# Altium integrated library ECE_ComponentsAD23_2.IntLib: 366 symbols (part 1 of 4)
Pins are listed as number, name and electrical type; pins without a type are passive.

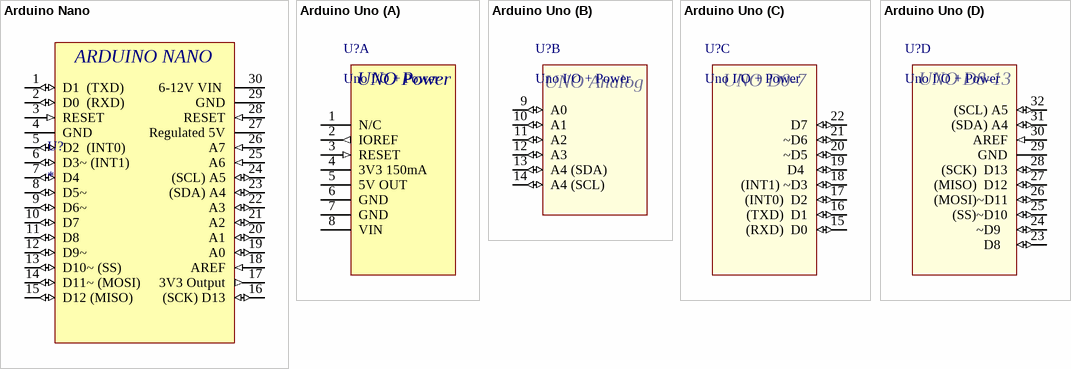
[diagram p0: symbols Arduino Nano to Arduino Uno]

## Arduino Nano
designator U?
Arduino Nano
footprint Arduino-nano
pins: 1 D1  (TXD) (io) "Arduino Pin1 - PD1 - TX data", 2 D0  (RXD) (io) "Arduino Pin0 - PD0 - RXD", 3 RESET (in) "PC6 - RESET", 4 GND (power), 5 D2  (INT0) (io) "Arduino Pin2 - PD2 - INT0", 6 D3~ (INT1) (io) "Arduino Pin3 - PD3 - INT1 - PWM", 7 D4  (io) "Arduino Pin4 - PD4", 8 D5~ (io) "Arduino Pin5 - PD5 - PWM", 9 D6~ (io) "Arduino Pin6 - PD6 - PWM", 10 D7 (io) "Arduino Pin7 - PD7", 11 D8 (io) "Arduino Pin8 - PB0", 12 D9~ (io) "Arduino Pin9 - PB1 - PWM", 13 D10~ (SS) (io) "Arduino Pin10 - PB2 - PWM - SPI SLAVE SELECT", 14 D11~ (MOSI) (io) "Arduino Pin11 - PB3 - PWM - SPI MOSI", 15 D12 (MISO) (io) "Arduino Pin12 - PB4 - SPI MISO", 16 (SCK) D13 (io) "Arduino Pin13 - PB5 - SPI SCK", 17 3V3 Output (out) "3V3 - Output from Arduino", 18 AREF (in) "Analog Ref", 19 A0 (io) "ADC0 - PC0", 20 A1 (io) "ADC1 - PC1", 21 A2 (io) "ADC2 - PC2", 22 A3 (io) "ADC3 - PC3", 23 (SDA) A4 (io) "ADC4 - PC4 - SDA", 24 (SCL) A5 (io) "ADC5 - PC5 - SCL", 25 A6 (in) "ADC6 - input only", 26 A7 (in) "ADC7 - input only", 27 Regulated 5V (power) "5V Reg out from onboard reg. OR 5V Reg IN", 28 RESET (in) "RESET - PC6", 29 GND (power), 30 6-12V VIN  (power) "External supply to onboard 5V regulator"
text: ARDUINO NANO

## Arduino Uno
designator U?, comment Uno I/O + Power
Four ports - Dig 0-8, Dig 8-13, Analog 0-5, Power
footprint Arduino Uno
part A pins: 1 N/C "Not Connected", 2 IOREF (out) "Reference for shield from Uno indicating I/O volt level", 3 RESET (in), 4 3V3 150mA (power) "3V3 150mA - uses LP2985-33DBVR", 5 5V OUT (power) "5V 500mA USB / 1A via DC Jack or VIN", 6 GND (power), 7 GND (power), 8 VIN (power) "VIN 7-20V"
part B pins: 9 A0 (io) "A0 or Gen I/O", 10 A1 (io) "A1 or Gen I/O", 11 A2 (io) "A2 or Gen I/O", 12 A3 (io) "A3 or Gen I/O", 13 A4 (SDA) (io) "A4 - Gen I/O - SDA", 14 A4 (SCL) (io) "A4 - Gen I/O - SCL"
part C pins: 15 (RXD)  D0 (io) "Arduino Pin0 - PD0 - RXD", 16 (TXD)  D1 (io) "D1 - PD1 - TXD", 17 (INT0)  D2 (io) "Arduino Pin2 - PD2 - INT0", 18 (INT1) ~D3 (io) "Arduino Pin3 - PD3 - INT1 - PWM", 19 D4  (io) "Arduino Pin4 - PD4", 20 ~D5 (io) "Arduino Pin5 - PD5 - PWM", 21 ~D6 (io) "Arduino Pin6 - PD6 - PWM", 22 D7 (io) "Arduino Pin7 - PD7"
part D pins: 23 D8   (io) "Arduino Pin8 - PB0", 24 ~D9   (io) "Arduino Pin9 - PB1 - PWM", 25 (SS)~D10 (io) "Arduino Pin10 - PB2 - PWM - SPI SLAVE SELECT", 26 (MOSI)~D11 (io) "Arduino Pin11 - PB3 - PWM - SPI MOSI", 27 (MISO)  D12 (io) "Arduino Pin12 - PB4 - SPI MISO", 28 (SCK)  D13 (io) "Arduino Pin13 - PB5 - SPI SCK", 29 GND (power), 30 AREF (in) "Analog Ref", 31 (SDA) A4 (io) "ADC4 - PC4 - SDA", 32 (SCL) A5 (io) "ADC5 - PC5 -SCL"
part A text: UNO Power
part B text: UNO Analog
part C text: UNO D0-7
part D text: UNO D8-13


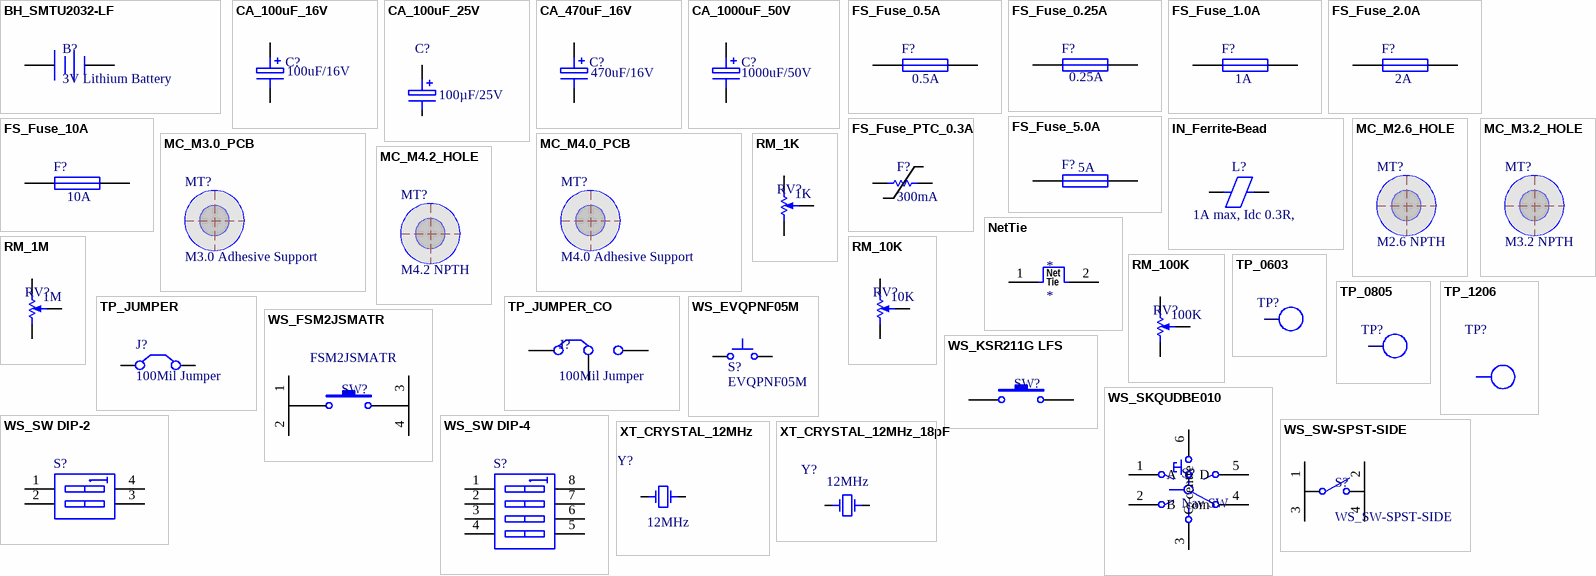
[diagram p1: symbols BH_SMTU2032-LF to XT_CRYSTAL_12MHz_18pF]

## BH_SMTU2032-LF
designator B?, comment 3V Lithium Battery
3V Lithium Coin Cell CR2032FH SMD; Storage Location: PCB Assembly WS; Supplier 2 PN: 3826351; Supplier 1: Farnell; Supplier Part Number 1: 1216354; Supplier: ECE Dept
footprint SMTU2032-LF (CR2032 Coin Cell Battery Holder SMT)
pins: 1 +, 2 -

## CA_100uF_16V
designator C?, comment 100uF/16V
CAP ALUM 100uF 16V SMD; Manufacturer PN: UWX1C101MCL1GB; Manufacturer: Nichcon; Supplier 1: Farnell; Supplier Part Number 1: 1870677; Storage Location: PCB Assembly WS; Supplier: ECE Dept; Supplier 2: Digi-Key; Supplier Part Number 2: 493-2105-1-ND; Value: 100uF/16V
footprint NICH-1 (Electrolytic capacitor)
pins: 1, 2

## CA_100uF_25V
designator C?, comment 100µF/25V
CAP ALUM 100UF 25V 20% SMD; Manufacturer: Nichicon; Manufacturer Part Number: UWT1E101MCL1GS; Ripple Current: 91mA; Supplier 1: Digi-Key; Height - Seated (Max): 0.303" (7.70mm); Mounting Type: Surface Mount; Operating Temperature: -55°C ~ 105°C; Package / Case: Radial, Can - SMD; Size / Dimension: 0.248" Dia (6.30mm); Supplier Part Number 1: 493-2190-1-ND; Capacitance: 100µF/25V
footprint CAPAE6666X77M (Aluminum Electrolytic Capacitor, Body 6.60x6.60x7.70mm, IPC Low Density)
pins: 1, 2

## CA_470uF_16V
designator C?, comment 470uF/16V
CAP ALUM 470uF 16V SMD; Manufacturer PN: EEEFP1C471AP; Manufacturer: Panasonic; Manufacturer Part Number: EEE-FP1C471AP; Material: Aluminium; Tolerance: 20%; Ripple Current: 850mA; ESR (Equivalent Series Resistance): 80mR; Life (Hours): 2000Hour; Leakage Current: 75.2uA; Storage Location: PCB Assembly WS; Supplier: ECE Dept; Mount: Surface Mount,PCB; Case/Package: Radial; Number of Pins: 2; Contact Plating: Tin; Min Operating Temperature: -55°C; Max Operating Temperature: 105°C; Capacitance: 470uF; Voltage Rating: 16V; Packaging: Tape and Reel; Package Quantity: 1; Voltage Rating (DC): 16V; Ripple Current (AC): 850mA; Termination: SMD/SMT; Voltage: 16V; Diameter: 8mm; Length: 10.5mm; Height: 10.2mm; Lead Pitch: 3.1mm; Height - Seated (Max): 0.402inch; Width: 8.3mm; Radiation Hardening: No; REACH SVHC: No SVHC; Lead Free: Lead Free; ComponentLink1URL: https://datasheet.ciiva.com/3773/45975129s8826661n1386-3773653.pdf; ComponentLink1Description: https://datasheet.ciiva.com/3773/45975129s8826661n1386-3773653.pdf; ComponentLink2URL: https://datasheet.ciiva.com/16393/aba0000ce114-16393093.pdf; ComponentLink2Description: https://datasheet.ciiva.com/16393/aba0000ce114-16393093.pdf; ComponentLink3URL: https://datasheet.ciiva.com/46385/370232-46385781.pdf; ComponentLink3Description: https://datasheet.ciiva.com/46385/370232-46385781.pdf; ComponentLink4URL: https://datasheet.ciiva.com/24072/aba0000ce114-40714-24072630.pdf; ComponentLink4Description: https://datasheet.ciiva.com/24072/aba0000ce114-40714-24072630.pdf; ComponentLink5URL: https://datasheet.ciiva.com/14607/70068195-14607368.pdf; ComponentLink5Description: https://datasheet.ciiva.com/14607/70068195-14607368.pdf; ComponentLink6URL: https://datasheet.ciiva.com/46376/370232-46376729.pdf; ComponentLink6Description: https://datasheet.ciiva.com/46376/370232-46376729.pdf; ComponentLink7URL: https://datasheet.ciiva.com/2985/aba0000ce114-2985530.pdf; ComponentLink7Description: https://datasheet.ciiva.com/2985/aba0000ce114-2985530.pdf; ComponentLink8URL: https://datasheet.ciiva.com/11777/0900766b80df09a1-11777354.pdf; ComponentLink8Description: https://datasheet.ciiva.com/11777/0900766b80df09a1-11777354.pdf; ComponentLink9URL: https://datasheet.ciiva.com/43455/370232-43455019.pdf; ComponentLink9Description: https://datasheet.ciiva.com/43455/370232-43455019.pdf; ComponentLink10URL: https://datasheet.ciiva.com/17353/aba0000ce114-17353676.pdf; ComponentLink10Description: https://datasheet.ciiva.com/17353/aba0000ce114-17353676.pdf; ComponentLink11URL: https://datasheet.ciiva.com/25614/0900766b80df09a1-25614237.pdf; ComponentLink11Description: https://datasheet.ciiva.com/25614/0900766b80df09a1-25614237.pdf; ComponentLink12URL: https://datasheet.ciiva.com/46387/370232-46387919.pdf; ComponentLink12Description: https://datasheet.ciiva.com/46387/370232-46387919.pdf; ComponentLink13URL: https://datasheet.ciiva.com/29313/444562-da-01-en-smd-elko-eeefp1c471ap-470uf-16v-105-29313908.pdf; ComponentLink13Description: https://datasheet.ciiva.com/29313/444562-da-01-en-smd-elko-eeefp1c471ap-470uf-16v-105-29313908.pdf; Supplier 1: Digi-Key; Supplier 2: Farnell; Supplier Part Number 1: PCE4436CT-ND; Supplier Part Number 2: 1539508; Value: 470uF/16V
footprint PANA-F (Panasonic FP Case Size F)
pins: 1, 2

## CA_1000uF_50V
designator C?, comment 1000uF/50V
CAP ALUM 1000uF 50V SMD; Manufacturer PN: EEVFK1H102M; Manufacturer: Panasonic; Supplier 1: Farnell; Supplier Part Number 1: 9695982; Storage Location: PCB Assembly WS; Supplier: ECE Dept; Supplier 2: Digi-Key; Supplier Part Number 2: PCE4848CT-ND; Value: 1000uF/50V
footprint PANA-J16 (Panasonic FJ Series Size J16)
pins: 1, 2

## FS_Fuse_0.5A
designator F?, comment 0.5A
Fuse 0.5A Very Fast Acting 1206 SMD; Manufacturer: MULTICOMP; Manufacturer PN: MC12CF.500; Breaking Capacity: 50A @ 32V AC / 63; Device Marking: F; Fuse Case Style: 1206; Fuse Current: 500; Supplier: ECE Dept; Storage Location: PCB Assembly WS; Blow Characteristic: Very Fast Acting; Fuse Type Blowing Characteristic: Very Fast Acting; Supplier 1: Farnell; Supplier Part Number 1: 1841022; Manufacturer Part Number: MC12CF.500; Value: 0.5A
footprint RESC3216L (Chip Resistor, Body 3.1x1.6mm, IPC High Density)
footprint RESC3216M (Chip Resistor, Body 3.2x1.6mm, IPC Low Density)
footprint RESC3216N (Chip Resistor, Body 3.2x1.6mm, IPC Medium Density)
pins: 1, 2

## FS_Fuse_0.25A
designator F?, comment 0.25A
Fuse 0.25A Very Fast Acting 1206 SMD; Manufacturer: MULTICOMP; Manufacturer PN: MC12CF.250; Breaking Capacity: 50A @ 32V AC / 63; Device Marking: D; Fuse Case Style: 1206; Fuse Current: 250; Supplier: ECE Dept; Storage Location: PCB Assembly WS; Blow Characteristic: Very Fast Acting; Fuse Type Blowing Characteristic: Very Fast Acting; Supplier 1: Farnell; Supplier Part Number 1: 1841020; Manufacturer Part Number: MC12CF.250; Value: 0.25A
footprint RESC3216L (Chip Resistor, Body 3.1x1.6mm, IPC High Density)
footprint RESC3216M (Chip Resistor, Body 3.2x1.6mm, IPC Low Density)
footprint RESC3216N (Chip Resistor, Body 3.2x1.6mm, IPC Medium Density)
pins: 1, 2

## FS_Fuse_1.0A
designator F?, comment 1A
Fuse 1.0A Very Fast Acting 1206 SMD; Manufacturer: MULTICOMP; Manufacturer PN: MC12CF 001; Breaking Capacity: 50A @ 32V AC / 63; Device Marking: H; Fuse Case Style: 1206; Fuse Current: 1; Supplier: ECE Dept; Storage Location: PCB Assembly WS; Blow Characteristic: Very Fast Acting; Fuse Type Blowing Characteristic: Very Fast Acting; Supplier 1: Farnell; Supplier Part Number 1: 1841024; Manufacturer Part Number: MC12CF 001; Value: 1A
footprint RESC3216L (Chip Resistor, Body 3.1x1.6mm, IPC High Density)
footprint RESC3216M (Chip Resistor, Body 3.2x1.6mm, IPC Low Density)
footprint RESC3216N (Chip Resistor, Body 3.2x1.6mm, IPC Medium Density)
pins: 1, 2

## FS_Fuse_2.0A
designator F?, comment 2A
Fuse 2.0A Very Fast Acting 1206 SMD; Manufacturer: MULTICOMP; Manufacturer PN: MC12CF 002; Supplier: ECE Dept; Storage Location: PCB Assembly WS; Supplier 1: Farnell; Supplier Part Number 1: 1841029; Manufacturer Part Number: MC12CF 002; Value: 2A
footprint RESC3216L (Chip Resistor, Body 3.1x1.6mm, IPC High Density)
footprint RESC3216M (Chip Resistor, Body 3.2x1.6mm, IPC Low Density)
footprint RESC3216N (Chip Resistor, Body 3.2x1.6mm, IPC Medium Density)
pins: 1, 2

## FS_Fuse_5.0A
designator F?, comment 5A
Fuse 5.0A Fast Acting 1206 SMD; Manufacturer Part Number: C1F5; Manufacturer: Bel TRP; Voltage Rating (AC): 125V; Voltage Rating (DC): 63V; DC Cold Resistance: 19mR; Fuse Type: Board Mount (Cartridge Style Excluded); Approvals: CE,cURus; Mount: Surface Mount; Case/Package: 1206; Number of Pins: 2; Case Code (Metric): 3216; Case Code (Imperial): 1206; Contact Plating: Nickel,Tin; Min Operating Temperature: -55°C; Max Operating Temperature: 125°C; Packaging: Tape and Reel; Voltage Rating: 125V; Length: 0.126inch; Width: 0.062inch; Supplier 1: Digi-Key; Stock 1: 725; Pricing 1: 1=0.32, 5=0.312, 10=0.298, 50=0.2662, 100=0.2479, 250=0.22032, 500=0.1836, 1000=0.17442 (USD); ComponentLink1URL: http://www.farnell.com/datasheets/2571625.pdf; ComponentLink1Description: http://www.farnell.com/datasheets/2571625.pdf; ComponentLink2URL: http://belfuse.com/pdfs/C1F.pdf; ComponentLink2Description: http://belfuse.com/pdfs/C1F.pdf; ComponentLink3URL: http://www.mouser.com/ds/2/643/C1F-594910.pdf; ComponentLink3Description: http://www.mouser.com/ds/2/643/C1F-594910.pdf; ComponentLink4URL: https://belfuse.com/resources/StewartConnector/C1F.pdf; ComponentLink4Description: https://belfuse.com/resources/StewartConnector/C1F.pdf; Current Rating: 5A; Supplier Part Number 1: 507-1886-1-ND; Supplier 2: Element14; Supplier Part Number 2: 2848595; Value: 5A
footprint RESC3216L (Chip Resistor, Body 3.1x1.6mm, IPC High Density)
footprint RESC3216M (Chip Resistor, Body 3.2x1.6mm, IPC Low Density)
footprint RESC3216N (Chip Resistor, Body 3.2x1.6mm, IPC Medium Density)
pins: 1, 2

## FS_Fuse_10A
designator F?, comment 10A
Fuse 10A Fast Acting 1206 SMD; Manufacturer: Eaton Bussmann; Manufacturer Part Number: TR/3216FF10-R; Device Marking: 10; Fuse Case Style: 1206; Voltage Rating (AC): 32V; Voltage Rating (DC): 24V; Supplier: ECE Dept; Storage Location: PCB Assembly WS; Fuse Current: 10; Fuse Type Blowing Characteristic: Fast Acting; Supplier 1: Digi-Key; Supplier 2: Farnell; Current Rating: 10A; Supplier Part Number 2: 1717117; Supplier Part Number 1: TR/3216FF10-R-ND; Blow Characteristic: Fast Acting; Value: 10A
footprint RESC3216L (Chip Resistor, Body 3.1x1.6mm, IPC High Density)
footprint RESC3216M (Chip Resistor, Body 3.2x1.6mm, IPC Low Density)
footprint RESC3216N (Chip Resistor, Body 3.2x1.6mm, IPC Medium Density)
pins: 1, 2

## FS_Fuse_PTC_0.3A
designator F?, comment 300mA
FUSE PTC RESETTABLE 0603 SMD 0.1A; Manufacturer: Bourns Inc.; Manufacturer Part Number: MF-FSMF010X-2; Current - Hold (Ih) (Max): 100mA; Current - Max: 40A; R Min/Max: 0.900 ~ 6.000 Ohm; Supplier 1: Digi-Key; Current - Trip (It): 300mA; Package / Case: 0603 (1608 Metric), Concave; Supplier Part Number 1: MF-FSMF010X-2CT-ND
footprint RESC1608N (Chip Resistor, Body 1.6x0.8mm, IPC Medium Density)
pins: 1, 2 -

## IN_Ferrite-Bead
designator L?, comment 1A max, Idc 0.3R,
Ferrite Bead, Rdc 0.3R, Z100MHZ 600R, Imax 1A, SMD 1206; Manufacturer: FAIR-RITE; Manufacturer PN: 2512066017Y1; DC Current Rating: 1; DC Resistance Max: 0.08; Ferrite Case Style: 1206 ^3216 Metric]; Frequency Range: 50MHz to 1; Impedance: 600; Impedance Tolerance: ± 25%; Supplier: ECE Dept; Storage Location: PCB Assembly WS; Ferrite Mounting: SMD; Supplier 1: Farnell; Supplier Part Number 1: 1612060; Manufacturer Part Number: 2512066017Y1; Value: 1A max, Idc 0.3R,
signal-integrity model Inductor Isolated
footprint INDC3216L (Chip Inductor, Body 3.2x1.6mm, IPC High Density)
footprint INDC3216M (Chip Inductor, Body 3.2x1.6mm, IPC Low Density)
footprint INDC3216N (Chip Inductor, Body 3.2x1.6mm, IPC Medium Density)
pins: 1, 2

## MC_M2.6_HOLE
designator MT?, comment M2.6 NPTH  (no BOM)
Fixing M2.6 Mount Hole NPTH; Manufacturer: Hi-Q; Manufacturer PN: 2BV series M2.5 Clearance; price: 0; Supplier: ECE Dept; value: M2.6 NPTH
footprint MNT-HOLE_2.6mm_NPTH (Mounting Hole 2.6mm non plated)

## MC_M3.0_PCB
designator MT?, comment M3.0 Adhesive Support  (no BOM)
PCB Support Adhesive Mount M3.0 Hi-Q PSA; Manufacturer PN: PSA Series; price: 0; Manufacturer: Hi-Q; Storage Location: ECE$ Store; Supplier: ECE Dept; value: M3.0 Adhesive Support
footprint HIQPSA3mm (PCB Support Adhesive Mount)

## MC_M3.2_HOLE
designator MT?, comment M3.2 NPTH  (no BOM)
Fixing M3.2 Mount Hole NPTH; Manufacturer: Hi-Q; Manufacturer PN: 3BV series M3 Clearance; price: 0; Supplier: ECE Dept; value: M3.2 NPTH
footprint MNT-HOLE_3.2mm_NPTH (Mounting Hole 3.2mm non plated)

## MC_M4.0_PCB
designator MT?, comment M4.0 Adhesive Support  (no BOM)
PCB Support Adhesive Mount M4.0 Hi-Q PSA; Manufacturer PN: PSA Series; price: 0; Manufacturer: Hi-Q; Storage Location: ECE$ Store; Supplier: ECE Dept; value: M4.0 Adhesive Support
footprint HIQPSA4mm (PCB Support Adhesive Mount)

## MC_M4.2_HOLE
designator MT?, comment M4.2 NPTH  (no BOM)
Fixing M4.2 Mount Hole NPTH; Manufacturer: Hi-Q; Manufacturer PN: 4NE Series M4 Clearance; price: 0; Supplier: ECE Dept; value: M4.2 NPTH
footprint MNT-HOLE_4.2mm_NPTH (Mounting Hole 4.2mm non plated)

## NetTie
designator *  (net tie, no BOM)
Allows the shorting of two nets.
footprint LINK 1206 (Chip Resistor, Body 3.1x1.6mm, IPC High Density)
pins: 1, 2 "1"
text: Net; Tie

## RM_1K
designator RV?, comment 1K
Trim Pot SMD 1K Murata PVZ2 Series SMD; Manufacturer Part Number: PVZ2A102C04B00; External Depth: 2.7; External Length / Height: 0.85; External Width: 2.1; No. of Turns: 1; Power Rating: 50; Resistor Element Material: Metal Foil; Manufacturer: MURATA; Storage Location: PCB Assembly WS; Potentiometer Mounting: SMD; Supplier 1: Farnell; Supplier Part Number 1: 1771721; Supplier: ECE Dept; Value: 1K
footprint PVZ2A (MuRata Trimmer Pots)
pins: 1, 2 W, 3 -

## RM_1M
designator RV?, comment 1M
Trim Pot SMD 1M Murata PVZ2 Series SMD; Manufacturer Part Number: PVZ2A105C04B00; Adjustment Type: Top; External Depth: 2.7; External Length / Height: 0.85; External Width: 2.1; No. of Turns: 1; Power Rating: 50; Resistor Element Material: Metal Foil; Manufacturer: MURATA; Storage Location: PCB Assembly WS; Potentiometer Mounting: SMD; Series: PVZ2; Supplier 1: Farnell; Supplier Part Number 1: 1771729; Supplier: ECE Dept; Value: 1M
footprint PVZ2A (MuRata Trimmer Pots)
pins: 1, 2 W, 3 -

## RM_10K
designator RV?, comment 10K
Trim Pot SMD 10K Murata PVZ2 Series SMD; Manufacturer PN: PVZ2A103C04B00; Supplier 1: Farnell; Supplier Part Number 1: 1771725; Manufacturer: Murata; Storage Location: PCB Assembly WS; Supplier: ECE Dept; Value: 10K
footprint PVZ2A (MuRata Trimmer Pots)
pins: 1, 2 W, 3 -

## RM_100K
designator RV?, comment 100K
Trim Pot SMD 100K Murata PVZ2 Series SMD; Manufacturer Part Number: PVZ2A104C04B00; Adjustment Type: Top; External Depth: 2.7; External Length / Height: 0.85; External Width: 2.1; No. of Turns: 1; Power Rating: 50; Resistor Element Material: Metal Foil; Manufacturer: MURATA; Storage Location: PCB Assembly WS; Potentiometer Mounting: SMD; Series: PVZ2; Supplier 1: Farnell; Supplier Part Number 1: 1771728; Supplier: ECE Dept; Value: 100K
footprint PVZ2A (MuRata Trimmer Pots)
pins: 1, 2 W, 3 -

## TP_0603
designator TP?  (value not drawn)
Test Point 1.65X0.9X1.2mm SMD; Manufacturer: TE Connectivity AMP Connectors; Manufacturer Part Number: 1625854-3; Supplier 1: Digi-Key; Mounting Type: Surface Mount; Terminal: 0.063" x 0.031" x 0.045" (1.60mm x 0.80mm x 1.15mm); Type: PC Test Point; Supplier Part Number 1: A106145CT-ND
footprint TP_0603 (TestPoint 0603)
pins: 1 TP

## TP_0805
designator TP?  (value not drawn)
Test Point 2.0X0.9X1.2mm SMD; Manufacturer: TE Connectivity AMP Connectors; Manufacturer Part Number: 1625854-2; Supplier 1: Digi-Key; Mounting Type: Surface Mount; Terminal: 0.079" x 0.049" x 0.057" (2.00mm x 1.25mm x 1.45mm); Type: PC Test Point; Supplier Part Number 1: A106144CT-ND
footprint TP_0805 (TestPoint SMD)
pins: 1 TP

## TP_1206
designator TP?, comment TP  (value not drawn)  (no BOM)
Test-Point 3.3x1.6x2.1mm SMD; Manufacturer: Harwin Inc; Manufacturer Part Number: S1751-46R; Manufacturer PN: *; Storage Location: ProtoPlace; Mounting Type: Surface Mount; Type: PC Test Point; Supplier 1: Digi-Key; Supplier Part Number 1: 952-1478-2-ND; Supplier 2: Farnell; Supplier Part Number 2: 1826282; Supplier: ECE Dept; Value: TP
footprint TP_1206 (Test Point Pad)
pins: 1

## TP_JUMPER
designator J?, comment 100Mil Jumper
2.54mm Jumper Thru Hole; Pitch Spacing: 2.54; No. of Rows: 1; No. of Positions: 2; Supplier: ECE Dept; Supplier 1: Farnell; Supplier Part Number 1: 1097975; Storage Location: ECE$ Store
footprint JMP2.54 (Jumper Change over 2.54mm)
pins: 1 C1, 2 C2

## TP_JUMPER_CO
designator J?, comment 100Mil Jumper
2.54mm Jumper change over, Thru Hole; Supplier: ECE Dept; Storage Location: ECE$ Store
footprint JMP2.54-CO (Jumper Change over 2.54mm)
pins: 1 C1, 2 C2, 3 C3

## WS_EVQPNF05M
designator S?, comment EVQPNF05M
Panasonic 6 x 3.5mm SMD Light Touch Switch Type SMD; PackageDescription: 6.0 x 3.5 mm; Supplier 1: Farnell; Supplier Part Number 1: 2079481; Manufacturer: Panasonic; Manufacturer PN: EVQPNF05M; Supplier 2: Digi-Key; Supplier Part Number 2: P13598SCT-ND; Storage Location: PCB Assembly WS; Supplier: ECE Dept
footprint EVQPNF05M (Panansonic light touch SMD push button switch)
pins: 1, 2

## WS_FSM2JSMATR
designator SW?, comment FSM2JSMATR
SWITCH TACTILE SPST-NO 0.05A 12V SMD; Manufacturer: TE Connectivity; Actuator Height off PCB, from Pins: 4.30mm; Actuator Orientation: Top Actuated; Contact Rating @ Voltage: 0.05A @ 12VDC; Operating Force: 160gf; Outline: 6.00mm x 6.00mm; Supplier 1: Farnell; Supplier 2: Digi-Key; Circuit: SPST-NO; Pricing: 1=0.55, 10=0.518, 25=0.4444, 50=0.3778, 100=0.363, 250=0.32592, 500=0.31108 (NZD); Supplier Part Number 1: 1570392; Supplier Part Number 2: 450-1757-1-ND; Storage Location: PCB Assembly WS; Supplier: ECE Dept; Manufacturer Part Number: FSM2JSMATR
footprint FSM2JSMA (6 X 6 mm Switch)
pins: 1, 2, 3, 4

## WS_KSR211G LFS
designator SW?, comment KSR211G LFS  (value not drawn)
SWITCH TACTILE SPST-NO SMD; Manufacturer: C & K COMPONENTS; Contact Current Max: 50; Contact Resistance: 100; Contact Voltage DC Nom: 32; Operating Force: 1.8; Contact Configuration: SPST-NO; Pricing: 1=0.538, 50=0.477, 100=0.416, 2500=0.219 (NZD); Supplier 1: Farnell; Supplier Part Number 1: 1437634; Storage Location: PCB Assembly WS; Supplier: ECE Dept; Manufacturer Part Number: KSR211G LFS
footprint KSR211G (Subminature Tactile Switch in SMT)
pins: 1, 2

## WS_SKQUDBE010
designator S?, comment Nav SW
4-Direction with Center-push function Nav SW SMD; Manufacturer: ALPS; Manufacturers PN: SKQUDBE010; Contact Current DC Max: 50; Contact Voltage DC Max: 12; External Depth: 10; External Length / Height: 8.6; Switch Operation: 4 Direction and Centre Push; Supplier: RS; Supplier PN: 516-110; Supplier 1: Farnell; Supplier Part Number 1: 1435776; External Width: 10; Height: 5.8; ComponentLink1URL: http://www.farnell.com/datasheets/85573.pdf; ComponentLink1Description: http://www.farnell.com/datasheets/85573.pdf; Footprint: SKQU
footprint SKQU (6 pad SMD Nav SW)
pins: 1 A, 2 B, 3 C, 4 com, 5 D, 6 centre

## WS_SW DIP-2
designator S?
DIP Switch, 2 Position, SPST SMD; Manufacturer: OMRON ELECTRONIC COMPONENTS; Manufacturer Part Number: A6SN-2101; Contact Current DC Max: 25; External Length / Height: 7; No. of Switch Positions: 2; Pitch Spacing: 2.54; PackageReference: DIP-4; Contact Configuration: SPST; Supplier 1: Farnell; Supplier Part Number 1: 2029424; Storage Location: PCB Assembly WS; Supplier: ECE Dept
footprint DIP_SW_2WAY_SMD (DIP Switch; 4 Leads)
pins: 1 A1, 2 A2, 3 B2, 4 B1

## WS_SW DIP-4
designator S?
DIP Switch, 4 Position, SPST SMD; Manufacturer: OMRON ELECTRONIC COMPONENTS; Manufacturer Part Number: A6SN-4101; Contact Current DC Max: 25; External Length / Height: 12.1; No. of Switch Positions: 4; Pitch Spacing: 2.54; Contact Configuration: SPST; Supplier 1: Farnell; Supplier Part Number 1: 2029425; Storage Location: PCB Assembly WS; Supplier: ECE Dept
footprint DIP_SW_4WAY_SMD - (DIP Switch; 8 Leads)
pins: 1 A1, 2 A2, 3 A3, 4 A4, 5 B4, 6 B3, 7 B2, 8 B1

## WS_SW-SPST-SIDE
designator S?
Single-Pole, Side operated Single-Throw Switch SMD; Manufacturer: WURTH ELEKTRONIK; Manufacturer Part Number: 434353045816; Contact Configuration: DPST; Contact Current Max: 50; Contact Voltage DC Nom: 12; External Depth: 3.5; External Length / Height: 1.65; External Width: 4.7; Operating Force: 160; PackageReference: SPST-2; PackageDescription: Switch; 2 Leads; Pricing: 1=1.57, 25=1.25, 50=0.93, 100=0.58, 250=0.55 (NZD); Supplier 1: Farnell; Supplier Part Number 1: 1867998RL
footprint SW-TUS-4.7X3.5 (SPST Side Operated SMD Switch)
pins: 1 COMMON, 2 NO, 3 COMMON, 4 NO

## XT_CRYSTAL_12MHz
designator Y?, comment ****Legacy stock - 60 available Feb2022****  value 12MHz
12.00 MHZ 18PF HC49/4H SMD; Manufacturer: Abracon Corporation; Manufacturer PN: ABLS-8.000MHZ-B2-T; Supplier 1: Farnell; Supplier Part Number 1: 1842280; Storage Location: PCB Assembly WS; Supplier: ECE Dept; Supplier 2: Digi-Key; Supplier Part Number 2: 535-10218-1-ND
footprint HC49/4h_SMX (Quartz Crystal, SM; Body 13.4 (inc. leads) x 4.9 mm (LxW max))
pins: 1 OSC1, 2 OSC2

## XT_CRYSTAL_12MHz_18pF
designator Y?, comment 12MHz
CRYSTAL 12MHZ 18PF 6X3.5mm SMD; Manufacturer: CTS-Frequency Controls; Manufacturer Part Number: 406C35D12M00000; ESR (Equivalent Series Resistance): 60 Ohm; Frequency Stability: ±50ppm; Frequency Tolerance: ±30ppm; Operating Mode: Fundamental; Supplier 1: Digi-Key; Height: 0.047" (1.20mm); Load Capacitance: 18pF; Mounting Type: Surface Mount; Operating Temperature: -20°C ~ 70°C; Package / Case: 4-SMD, No Lead (DFN, LCC); Size / Dimension: 0.236" L x 0.138" W (6.00mm x 3.50mm); Supplier Part Number 1: CTX855CT-ND; Frequency: 12MHz
footprint 6.0X3.5-4 (4 SMD 6.0X3.5 mm No Lead Crystal)
pins: 1 OSC1, 3 OSC2


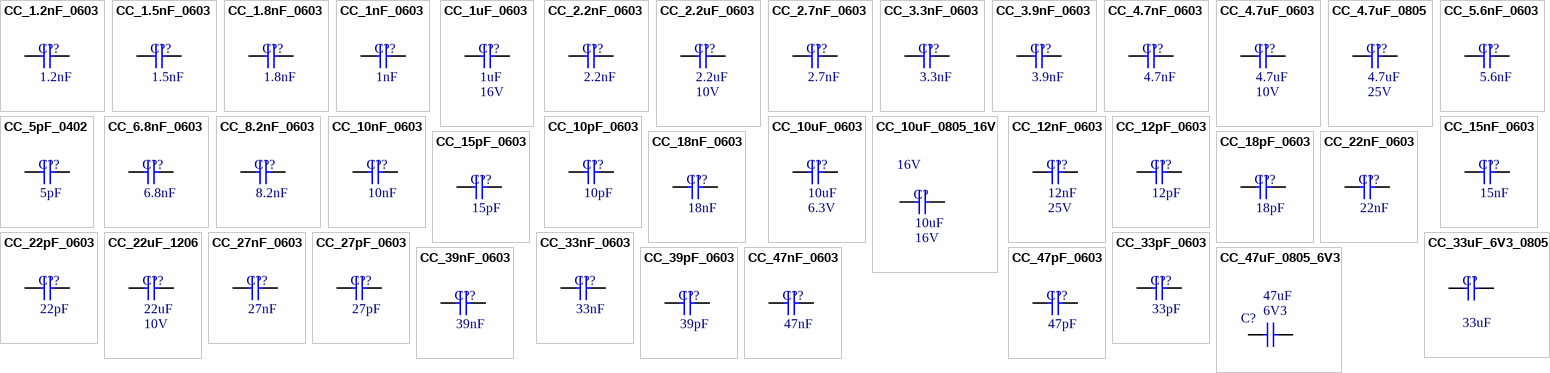
[diagram p2: symbols CC_1.2nF_0603 to CC_47uF_0805_6V3]

## CC_1.2nF_0603
designator C??, comment 1.2nF
CAP CER 1.2nF X7R +-10% 50V 0603; PackageReference: 0603; Code_IPC: 1608 [0603]; Verify: *; Supplier: ECE Dept; Storage Location: PCB Assembly WS; Value: 1.2nF
simulation model CAP (Capacitor)
signal-integrity model C0603
footprint CAPC1608L (Chip Capacitor, Body 1.6x0.8mm, IPC High Density)
footprint CAPC1608M (Chip Capacitor, Body 1.6x0.8mm, IPC Low Density)
footprint CAPC1608N (Chip Capacitor, Body 1.6x0.8mm, IPC Medium Density)
pins: 1, 2

## CC_1.5nF_0603
designator C??, comment 1.5nF
CAP CER 1.5nF X7R +-10% 50V 0603; PackageReference: 0603; Code_IPC: 1608 [0603]; Verify: *; Supplier: ECE Dept; Storage Location: PCB Assembly WS; Value: 1.5nF
simulation model CAP (Capacitor)
signal-integrity model C0603
footprint CAPC1608L (Chip Capacitor, Body 1.6x0.8mm, IPC High Density)
footprint CAPC1608M (Chip Capacitor, Body 1.6x0.8mm, IPC Low Density)
footprint CAPC1608N (Chip Capacitor, Body 1.6x0.8mm, IPC Medium Density)
pins: 1, 2

## CC_1.8nF_0603
designator C??, comment 1.8nF
CAP CER 1.8nF X7R +-10% 50V 0603; PackageReference: 0603; Code_IPC: 1608 [0603]; Verify: *; Supplier: ECE Dept; Storage Location: PCB Assembly WS; Value: 1.8nF
simulation model CAP (Capacitor)
signal-integrity model C0603
footprint CAPC1608L (Chip Capacitor, Body 1.6x0.8mm, IPC High Density)
footprint CAPC1608M (Chip Capacitor, Body 1.6x0.8mm, IPC Low Density)
footprint CAPC1608N (Chip Capacitor, Body 1.6x0.8mm, IPC Medium Density)
pins: 1, 2

## CC_1nF_0603
designator C??, comment 1nF
CAP CER 1nF X7R +-10% 50V 0603; PackageReference: 0603; Code_IPC: 1608 [0603]; Verify: *; Supplier: ECE Dept; Storage Location: PCB Assembly WS; Value: 1nF
simulation model CAP (Capacitor)
signal-integrity model C0603
footprint CAPC1608L (Chip Capacitor, Body 1.6x0.8mm, IPC High Density)
footprint CAPC1608M (Chip Capacitor, Body 1.6x0.8mm, IPC Low Density)
footprint CAPC1608N (Chip Capacitor, Body 1.6x0.8mm, IPC Medium Density)
pins: 1, 2

## CC_1uF_0603
designator C??, comment Max Voltage: 16V  (hidden comment: 1uF)
CAP CER 1uF Y5V -20% +80% 16V 0603; PackageReference: 0603; Code_IPC: 1608 [0603]; Verify: *; Supplier: ECE Dept; Storage Location: PCB Assembly WS; Value: 1uF
simulation model CAP (Capacitor)
signal-integrity model C0603
footprint CAPC1608L (Chip Capacitor, Body 1.6x0.8mm, IPC High Density)
footprint CAPC1608M (Chip Capacitor, Body 1.6x0.8mm, IPC Low Density)
footprint CAPC1608N (Chip Capacitor, Body 1.6x0.8mm, IPC Medium Density)
pins: 1, 2

## CC_2.2nF_0603
designator C??, comment 2.2nF
CAP CER 2.2nF X7R +-10% 50V 0603; PackageReference: 0603; Code_IPC: 1608 [0603]; Verify: *; Supplier: ECE Dept; Storage Location: PCB Assembly WS; Value: 2.2nF
simulation model CAP (Capacitor)
signal-integrity model C0603
footprint CAPC1608L (Chip Capacitor, Body 1.6x0.8mm, IPC High Density)
footprint CAPC1608M (Chip Capacitor, Body 1.6x0.8mm, IPC Low Density)
footprint CAPC1608N (Chip Capacitor, Body 1.6x0.8mm, IPC Medium Density)
pins: 1, 2

## CC_2.2uF_0603
designator C??, comment Max Voltage: 10V  (hidden comment: 2.2uF)
CAP CER 2.2uF X5R +-20% 10V 0603; PackageReference: 0603; Code_IPC: 1608 [0603]; Verify: *; Supplier: ECE Dept; Storage Location: PCB Assembly WS; Value: 2.2uF
simulation model CAP (Capacitor)
signal-integrity model C0603
footprint CAPC1608L (Chip Capacitor, Body 1.6x0.8mm, IPC High Density)
footprint CAPC1608M (Chip Capacitor, Body 1.6x0.8mm, IPC Low Density)
footprint CAPC1608N (Chip Capacitor, Body 1.6x0.8mm, IPC Medium Density)
pins: 1, 2

## CC_2.7nF_0603
designator C??, comment 2.7nF
CAP CER 2.7nF X7R +-10% 50V 0603; PackageReference: 0603; Code_IPC: 1608 [0603]; Verify: *; Supplier: ECE Dept; Storage Location: PCB Assembly WS; Value: 2.7nF
simulation model CAP (Capacitor)
signal-integrity model C0603
footprint CAPC1608L (Chip Capacitor, Body 1.6x0.8mm, IPC High Density)
footprint CAPC1608M (Chip Capacitor, Body 1.6x0.8mm, IPC Low Density)
footprint CAPC1608N (Chip Capacitor, Body 1.6x0.8mm, IPC Medium Density)
pins: 1, 2

## CC_3.3nF_0603
designator C??, comment 3.3nF
CAP CER 3.3nF X7R +-10% 50V 0603; PackageReference: 0603; Code_IPC: 1608 [0603]; Verify: *; Supplier: ECE Dept; Storage Location: PCB Assembly WS; Value: 3.3nF
simulation model CAP (Capacitor)
signal-integrity model C0603
footprint CAPC1608L (Chip Capacitor, Body 1.6x0.8mm, IPC High Density)
footprint CAPC1608M (Chip Capacitor, Body 1.6x0.8mm, IPC Low Density)
footprint CAPC1608N (Chip Capacitor, Body 1.6x0.8mm, IPC Medium Density)
pins: 1, 2

## CC_3.9nF_0603
designator C??, comment 3.9nF
CAP CER 3.9nF X7R +-10% 50V 0603; PackageReference: 0603; Code_IPC: 1608 [0603]; Verify: *; Supplier: ECE Dept; Storage Location: PCB Assembly WS; Value: 3.9nF
simulation model CAP (Capacitor)
signal-integrity model C0603
footprint CAPC1608L (Chip Capacitor, Body 1.6x0.8mm, IPC High Density)
footprint CAPC1608M (Chip Capacitor, Body 1.6x0.8mm, IPC Low Density)
footprint CAPC1608N (Chip Capacitor, Body 1.6x0.8mm, IPC Medium Density)
pins: 1, 2

## CC_4.7nF_0603
designator C??, comment 4.7nF
CAP CER 4.7nF X7R +-10% 50V 0603; PackageReference: 0603; Code_IPC: 1608 [0603]; Verify: *; Supplier: ECE Dept; Storage Location: PCB Assembly WS; Value: 4.7nF
simulation model CAP (Capacitor)
signal-integrity model C0603
footprint CAPC1608L (Chip Capacitor, Body 1.6x0.8mm, IPC High Density)
footprint CAPC1608M (Chip Capacitor, Body 1.6x0.8mm, IPC Low Density)
footprint CAPC1608N (Chip Capacitor, Body 1.6x0.8mm, IPC Medium Density)
pins: 1, 2

## CC_4.7uF_0603
designator C??, comment Max Voltage: 10V  (hidden comment: 4.7uF)
CAP CER 4.7uF X5R +-20%  10V 0603; Note: Footprint corresponds to dimensions for bulk cassette packaging. This case size has tightened tolerances.; PackageReference: 0805; Code_IPC: 2012[0805]; Verify: *; Supplier: ECE Dept; Storage Location: PCB Assembly WS; Value: 4.7uF
simulation model CAP (Capacitor)
footprint CAPC1608L (Chip Capacitor, Body 1.6x0.8mm, IPC High Density)
footprint CAPC1608M (Chip Capacitor, Body 1.6x0.8mm, IPC Low Density)
footprint CAPC1608N (Chip Capacitor, Body 1.6x0.8mm, IPC Medium Density)
pins: 1, 2

## CC_4.7uF_0805
designator C??, comment Max Voltage: 25V  (hidden comment: 4.7uF)
CAP CER 4.7uF Y5V -20% +80% 25V 0805; Note: Footprint corresponds to dimensions for bulk cassette packaging. This case size has tightened tolerances.; PackageReference: 0805; Code_IPC: 2012[0805]; Verify: *; Supplier: ECE Dept; Storage Location: PCB Assembly WS; Value: 4.7uF
simulation model CAP (Capacitor)
signal-integrity model C0805
footprint CAPC2012L (Chip Capacitor, Body 2.0x1.3mm, IPC High Density)
footprint CAPC2012M (Chip Capacitor, Body 2.0x1.3mm, IPC Low Density)
footprint CAPC2012N (Chip Capacitor, Body 2.0x1.3mm, IPC Medium Density)
pins: 1, 2

## CC_5.6nF_0603
designator C??, comment 5.6nF
CAP CER 5.6nF X7R +-10% 50V 0603; PackageReference: 0603; Code_IPC: 1608 [0603]; Verify: *; Supplier: ECE Dept; Storage Location: PCB Assembly WS; Value: 5.6nF
simulation model CAP (Capacitor)
signal-integrity model C0603
footprint CAPC1608L (Chip Capacitor, Body 1.6x0.8mm, IPC High Density)
footprint CAPC1608M (Chip Capacitor, Body 1.6x0.8mm, IPC Low Density)
footprint CAPC1608N (Chip Capacitor, Body 1.6x0.8mm, IPC Medium Density)
pins: 1, 2

## CC_5pF_0402
designator C??, comment 5pF
CAP CER 5pF COG/NPO 50V 0402; PackageReference: 0402; Code_IPC: 1005 [0402]; Verify: *; Supplier: ECE Dept; Storage Location: PCB Assembly WS; Value: 5pF
simulation model CAP (Capacitor)
signal-integrity model C0402
footprint CAPC1005L (Chip Capacitor, Body 1.0x0.5mm, IPC High Density)
footprint CAPC1005M (Chip Capacitor, Body 1.0x0.5mm, IPC Low Density)
footprint CAPC1005N (Chip Capacitor, Body 1.0x0.5mm, IPC Medium Density)
pins: 1, 2

## CC_6.8nF_0603
designator C??, comment 6.8nF
CAP CER 6.8nF X7R +-10% 50V 0603; PackageReference: 0603; Code_IPC: 1608 [0603]; Verify: *; Supplier: ECE Dept; Storage Location: PCB Assembly WS; Value: 6.8nF
simulation model CAP (Capacitor)
signal-integrity model C0603
footprint CAPC1608L (Chip Capacitor, Body 1.6x0.8mm, IPC High Density)
footprint CAPC1608M (Chip Capacitor, Body 1.6x0.8mm, IPC Low Density)
footprint CAPC1608N (Chip Capacitor, Body 1.6x0.8mm, IPC Medium Density)
pins: 1, 2

## CC_8.2nF_0603
designator C??, comment 8.2nF
CAP CER 8.2nF X7R +-10% 50V 0603; PackageReference: 0603; Code_IPC: 1608 [0603]; Verify: *; Supplier: ECE Dept; Storage Location: PCB Assembly WS; Value: 8.2nF
simulation model CAP (Capacitor)
signal-integrity model C0603
footprint CAPC1608L (Chip Capacitor, Body 1.6x0.8mm, IPC High Density)
footprint CAPC1608M (Chip Capacitor, Body 1.6x0.8mm, IPC Low Density)
footprint CAPC1608N (Chip Capacitor, Body 1.6x0.8mm, IPC Medium Density)
pins: 1, 2

## CC_10nF_0603
designator C??, comment 10nF
CAP CER 10nF X7R +-10% 50V 0603; PackageReference: 0603; Code_IPC: 1608 [0603]; Verify: *; Supplier: ECE Dept; Storage Location: PCB Assembly WS; Value: 10nF
simulation model CAP (Capacitor)
signal-integrity model C0603
footprint CAPC1608L (Chip Capacitor, Body 1.6x0.8mm, IPC High Density)
footprint CAPC1608M (Chip Capacitor, Body 1.6x0.8mm, IPC Low Density)
footprint CAPC1608N (Chip Capacitor, Body 1.6x0.8mm, IPC Medium Density)
pins: 1, 2

## CC_10pF_0603
designator C??, comment 10pF
CAP CER 10pF COG/NPO 50V 0603; PackageReference: 0603; Code_IPC: 1005 [0402]; Verify: *; Supplier: ECE Dept; Storage Location: PCB Assembly WS; Value: 10pF
simulation model CAP (Capacitor)
signal-integrity model C0402
footprint CAPC1608L (Chip Capacitor, Body 1.6x0.8mm, IPC High Density)
footprint CAPC1608M (Chip Capacitor, Body 1.6x0.8mm, IPC Low Density)
footprint CAPC1608N (Chip Capacitor, Body 1.6x0.8mm, IPC Medium Density)
pins: 1, 2

## CC_10uF_0603
designator C??, comment Voltage - Rated: 6.3V  (hidden comment: 10uF)
CAP CER 10UF X5R +-20% 6V3 0603; Supplier: ECE Dept; Storage Location: PCB Assembly WS; Value: 10uF
simulation model CAP (Capacitor)
signal-integrity model C0805
footprint CAPC1608L (Chip Capacitor, Body 1.6x0.8mm, IPC High Density)
footprint CAPC1608M (Chip Capacitor, Body 1.6x0.8mm, IPC Low Density)
footprint CAPC1608N (Chip Capacitor, Body 1.6x0.8mm, IPC Medium Density)
pins: 1, 2

## CC_10uF_0805_16V
designator C?, comment Voltage - Rated: 16V  (hidden comment: 10uF)
CAP CER 10uF X5R 16V 0805; Manufacturer: Samsung Electro-Mechanics; Manufacturer Part Number: CL21A106KOQNNWE; Note: Footprint corresponds to dimensions for bulk cassette packaging. This case size has tightened tolerances.; Tolerance: ±10%; Notification: Current market demand for these product types have resulted in fluctuating and extending lead times. Lead times may differ.; PackageReference: 0805; Code_IPC: 2012[0805]; Supplier 1: Digi-Key; RoHS: RoHS Compliant; Category: Capacitors; Stock 1: 20000; Pricing 1: 1=0.35, 10=0.25, 100=0.1178, 500=0.08254, 1000=0.06831 (NZD); Packaging: Cut Tape (CT); Part Status: Active; Temperature Coefficient: X5R; Operating Temperature: -55°C ~ 85°C; Features: -; Ratings: -; Applications: General Purpose; Mounting Type: Surface Mount, MLCC; Package / Case: 0805 (2012 Metric); Size / Dimension: 0.079" L x 0.049" W (2.00mm x 1.25mm); Height - Seated (Max): -; Thickness (Max): 0.055" (1.40mm); Lead Spacing: -; Lead Style: -; ComponentLink1URL: http://www.samsungsem.com/kr/support/product-search/mlcc/CL21A106KOQNNWE.jsp; ComponentLink1Description: http://www.samsungsem.com/kr/support/product-search/mlcc/CL21A106KOQNNWE.jsp; Supplier Part Number 1: 1276-2894-1-ND; Value: 10uF; Max Voltage: 16V
simulation model CAP (Capacitor)
signal-integrity model C0805
footprint CAPC2012L (Chip Capacitor, Body 2.0x1.3mm, IPC High Density)
footprint CAPC2012M (Chip Capacitor, Body 2.0x1.3mm, IPC Low Density)
footprint CAPC2012N (Chip Capacitor, Body 2.0x1.3mm, IPC Medium Density)
pins: 1, 2

## CC_12nF_0603
designator C??, comment Max Voltage: 25V  (hidden comment: 12nF)
CAP CER 12nF X7R +-10% 25V 0603; PackageReference: 0603; Code_IPC: 1608 [0603]; Verify: *; Supplier: ECE Dept; Storage Location: PCB Assembly WS; Value: 12nF
simulation model CAP (Capacitor)
signal-integrity model C0603
footprint CAPC1608L (Chip Capacitor, Body 1.6x0.8mm, IPC High Density)
footprint CAPC1608M (Chip Capacitor, Body 1.6x0.8mm, IPC Low Density)
footprint CAPC1608N (Chip Capacitor, Body 1.6x0.8mm, IPC Medium Density)
pins: 1, 2

## CC_12pF_0603
designator C??, comment 12pF
CAP CER 12pF NPO/COG +-5% 50V 0603; PackageReference: 0603; Code_IPC: 1608 [0603]; Verify: *; Supplier: ECE Dept; Storage Location: PCB Assembly WS; Value: 12pF
simulation model CAP (Capacitor)
signal-integrity model C0603
footprint CAPC1608L (Chip Capacitor, Body 1.6x0.8mm, IPC High Density)
footprint CAPC1608M (Chip Capacitor, Body 1.6x0.8mm, IPC Low Density)
footprint CAPC1608N (Chip Capacitor, Body 1.6x0.8mm, IPC Medium Density)
pins: 1, 2

## CC_15nF_0603
designator C??, comment 15nF
CAP CER 15nF X7R +-10% 50V 0603; PackageReference: 0603; Code_IPC: 1608 [0603]; Verify: *; Supplier: ECE Dept; Storage Location: PCB Assembly WS; Value: 15nF
simulation model CAP (Capacitor)
signal-integrity model C0603
footprint CAPC1608L (Chip Capacitor, Body 1.6x0.8mm, IPC High Density)
footprint CAPC1608M (Chip Capacitor, Body 1.6x0.8mm, IPC Low Density)
footprint CAPC1608N (Chip Capacitor, Body 1.6x0.8mm, IPC Medium Density)
pins: 1, 2

## CC_15pF_0603
designator C??, comment 15pF
CAP CER 15pF NPO/COG +-5% 50V 0603; PackageReference: 0603; Code_IPC: 1608 [0603]; Verify: *; Supplier: ECE Dept; Storage Location: PCB Assembly WS; Value: 15pF
simulation model CAP (Capacitor)
signal-integrity model C0603
footprint CAPC1608L (Chip Capacitor, Body 1.6x0.8mm, IPC High Density)
footprint CAPC1608M (Chip Capacitor, Body 1.6x0.8mm, IPC Low Density)
footprint CAPC1608N (Chip Capacitor, Body 1.6x0.8mm, IPC Medium Density)
pins: 1, 2

## CC_18nF_0603
designator C??, comment 18nF
CAP CER 18nF X7R +-10% 50V 0603; PackageReference: 0603; Code_IPC: 1608 [0603]; Verify: *; Supplier: ECE Dept; Storage Location: PCB Assembly WS; Value: 18nF
simulation model CAP (Capacitor)
signal-integrity model C0603
footprint CAPC1608L (Chip Capacitor, Body 1.6x0.8mm, IPC High Density)
footprint CAPC1608M (Chip Capacitor, Body 1.6x0.8mm, IPC Low Density)
footprint CAPC1608N (Chip Capacitor, Body 1.6x0.8mm, IPC Medium Density)
pins: 1, 2

## CC_18pF_0603
designator C??, comment 18pF
CAP CER 18pF NPO/COG +-5% 50V 0603; PackageReference: 0603; Code_IPC: 1608 [0603]; Verify: *; Supplier: ECE Dept; Storage Location: PCB Assembly WS; Value: 18pF
simulation model CAP (Capacitor)
signal-integrity model C0603
footprint CAPC1608L (Chip Capacitor, Body 1.6x0.8mm, IPC High Density)
footprint CAPC1608M (Chip Capacitor, Body 1.6x0.8mm, IPC Low Density)
footprint CAPC1608N (Chip Capacitor, Body 1.6x0.8mm, IPC Medium Density)
pins: 1, 2

## CC_22nF_0603
designator C??, comment 22nF
CAP CER 22nF X7R +-10% 50V 0603; PackageReference: 0603; Code_IPC: 1608 [0603]; Verify: *; Supplier: ECE Dept; Storage Location: PCB Assembly WS; Value: 22nF
simulation model CAP (Capacitor)
signal-integrity model C0603
footprint CAPC1608L (Chip Capacitor, Body 1.6x0.8mm, IPC High Density)
footprint CAPC1608M (Chip Capacitor, Body 1.6x0.8mm, IPC Low Density)
footprint CAPC1608N (Chip Capacitor, Body 1.6x0.8mm, IPC Medium Density)
pins: 1, 2

## CC_22pF_0603
designator C??, comment 22pF
CAP CER 22pF NPO/COG +-5% 50V 0603; PackageReference: 0603; Code_IPC: 1608 [0603]; Verify: *; Supplier: ECE Dept; Storage Location: PCB Assembly WS; Value: 22pF
simulation model CAP (Capacitor)
signal-integrity model C0603
footprint CAPC1608L (Chip Capacitor, Body 1.6x0.8mm, IPC High Density)
footprint CAPC1608M (Chip Capacitor, Body 1.6x0.8mm, IPC Low Density)
footprint CAPC1608N (Chip Capacitor, Body 1.6x0.8mm, IPC Medium Density)
pins: 1, 2

## CC_22uF_1206
designator C??, comment Max Voltage: 10V  (hidden comment: 22uF)
CAP CER 22uF Y5V -20% +80% 10V 1206; Verify: *; Supplier: ECE Dept; Storage Location: PCB Assembly WS; Dielectric: Y5V; Footprint: 1206 (3216 metric); Value: 22uF
simulation model CAP (Capacitor)
footprint CAPC3216L (Chip Capacitor, Body 3.2x1.6mm, IPC High Density)
footprint CAPC3216M (Chip Capacitor, Body 3.2x1.6mm, IPC Low Density)
footprint CAPC3216N (Chip Capacitor, Body 3.2x1.6mm, IPC Medium Density)
pins: 1, 2

## CC_27nF_0603
designator C??, comment 27nF
CAP CER 27nF X7R +-10% 50V 0603; PackageReference: 0603; Code_IPC: 1608 [0603]; Verify: *; Supplier: ECE Dept; Storage Location: PCB Assembly WS; Value: 27nF
simulation model CAP (Capacitor)
signal-integrity model C0603
footprint CAPC1608L (Chip Capacitor, Body 1.6x0.8mm, IPC High Density)
footprint CAPC1608M (Chip Capacitor, Body 1.6x0.8mm, IPC Low Density)
footprint CAPC1608N (Chip Capacitor, Body 1.6x0.8mm, IPC Medium Density)
pins: 1, 2

## CC_27pF_0603
designator C??, comment 27pF
CAP CER 27pF NPO/COG +-5% 50V 0603; PackageReference: 0603; Code_IPC: 1608 [0603]; Verify: *; Supplier: ECE Dept; Storage Location: PCB Assembly WS; Value: 27pF
simulation model CAP (Capacitor)
signal-integrity model C0603
footprint CAPC1608L (Chip Capacitor, Body 1.6x0.8mm, IPC High Density)
footprint CAPC1608M (Chip Capacitor, Body 1.6x0.8mm, IPC Low Density)
footprint CAPC1608N (Chip Capacitor, Body 1.6x0.8mm, IPC Medium Density)
pins: 1, 2

## CC_33nF_0603
designator C??, comment 33nF
CAP CER 33nF X7R +-10% 50V 0603; PackageReference: 0603; Code_IPC: 1608 [0603]; Verify: *; Supplier: ECE Dept; Storage Location: PCB Assembly WS; Value: 33nF
simulation model CAP (Capacitor)
signal-integrity model C0603
footprint CAPC1608L (Chip Capacitor, Body 1.6x0.8mm, IPC High Density)
footprint CAPC1608M (Chip Capacitor, Body 1.6x0.8mm, IPC Low Density)
footprint CAPC1608N (Chip Capacitor, Body 1.6x0.8mm, IPC Medium Density)
pins: 1, 2

## CC_33pF_0603
designator C??, comment 33pF
CAP CER 33pF NPO/COG +-5% 50V 0603; PackageReference: 0603; Code_IPC: 1608 [0603]; Verify: *; Supplier: ECE Dept; Storage Location: PCB Assembly WS; Value: 33pF
simulation model CAP (Capacitor)
signal-integrity model C0603
footprint CAPC1608L (Chip Capacitor, Body 1.6x0.8mm, IPC High Density)
footprint CAPC1608M (Chip Capacitor, Body 1.6x0.8mm, IPC Low Density)
footprint CAPC1608N (Chip Capacitor, Body 1.6x0.8mm, IPC Medium Density)
pins: 1, 2

## CC_33uF_6V3_0805
designator C?, comment 33uF
CAP CER 33uF X5R 6V3 0805; Manufacturer: TDK Corporation; Manufacturer Part Number: C2012X5R0J336M125AC; Tolerance: ±20%; Voltage - Rated: 6.3V; Notification: Current market demand for these product types have resulted in fluctuating and extending lead times. Lead times may differ.; Supplier 1: Digi-Key; RoHS: RoHS Compliant; Category: Capacitors; Stock 1: 20000; Pricing 1: 1=1.65, 10=1.262, 100=0.9023, 500=0.6985, 1000=0.60149 (NZD); Packaging: Cut Tape (CT); Part Status: Active; Temperature Coefficient: X5R; Operating Temperature: -55°C ~ 85°C; Features: Low ESL; Ratings: -; Applications: General Purpose; Failure Rate: -; Mounting Type: Surface Mount, MLCC; Package / Case: 0805 (2012 Metric); Size / Dimension: 0.079" L x 0.049" W (2.00mm x 1.25mm); Height - Seated (Max): -; Thickness (Max): 0.057" (1.45mm); Lead Spacing: -; Lead Style: -; ComponentLink1URL: https://product.tdk.com/info/en/catalog/datasheets/mlcc_commercial_general_en.pdf; ComponentLink1Description: https://product.tdk.com/info/en/catalog/datasheets/mlcc_commercial_general_en.pdf; Supplier Part Number 1: 445-5986-1-ND; Value: 33uF
simulation model CAP (Capacitor)
signal-integrity model C0805
footprint CAPC2012L (Chip Capacitor, Body 2.0x1.3mm, IPC High Density)
footprint CAPC2012M (Chip Capacitor, Body 2.0x1.3mm, IPC Low Density)
footprint CAPC2012N (Chip Capacitor, Body 2.0x1.3mm, IPC Medium Density)
pins: 1, 2

## CC_39nF_0603
designator C??, comment 39nF
CAP CER 39nF X7R +-10% 50V 0603; PackageReference: 0603; Code_IPC: 1608 [0603]; Verify: *; Supplier: ECE Dept; Storage Location: PCB Assembly WS; Value: 39nF
simulation model CAP (Capacitor)
signal-integrity model C0603
footprint CAPC1608L (Chip Capacitor, Body 1.6x0.8mm, IPC High Density)
footprint CAPC1608M (Chip Capacitor, Body 1.6x0.8mm, IPC Low Density)
footprint CAPC1608N (Chip Capacitor, Body 1.6x0.8mm, IPC Medium Density)
pins: 1, 2

## CC_39pF_0603
designator C??, comment 39pF
CAP CER 39pF NPO/COG +-5% 50V 0603; PackageReference: 0603; Code_IPC: 1608 [0603]; Verify: *; Supplier: ECE Dept; Storage Location: PCB Assembly WS; Value: 39pF
simulation model CAP (Capacitor)
signal-integrity model C0603
footprint CAPC1608L (Chip Capacitor, Body 1.6x0.8mm, IPC High Density)
footprint CAPC1608M (Chip Capacitor, Body 1.6x0.8mm, IPC Low Density)
footprint CAPC1608N (Chip Capacitor, Body 1.6x0.8mm, IPC Medium Density)
pins: 1, 2

## CC_47nF_0603
designator C??, comment 47nF
CAP CER 47nF X7R +-10% 50V 0603; PackageReference: 0603; Code_IPC: 1608 [0603]; Verify: *; Supplier: ECE Dept; Storage Location: PCB Assembly WS; Value: 47nF
simulation model CAP (Capacitor)
signal-integrity model C0603
footprint CAPC1608L (Chip Capacitor, Body 1.6x0.8mm, IPC High Density)
footprint CAPC1608M (Chip Capacitor, Body 1.6x0.8mm, IPC Low Density)
footprint CAPC1608N (Chip Capacitor, Body 1.6x0.8mm, IPC Medium Density)
pins: 1, 2

## CC_47pF_0603
designator C??, comment 47pF
CAP CER 47pF NPO/COG +-5% 50V 0603; PackageReference: 0603; Code_IPC: 1608 [0603]; Verify: *; Supplier: ECE Dept; Storage Location: PCB Assembly WS; Value: 47pF
simulation model CAP (Capacitor)
signal-integrity model C0603
footprint CAPC1608L (Chip Capacitor, Body 1.6x0.8mm, IPC High Density)
footprint CAPC1608M (Chip Capacitor, Body 1.6x0.8mm, IPC Low Density)
footprint CAPC1608N (Chip Capacitor, Body 1.6x0.8mm, IPC Medium Density)
pins: 1, 2

## CC_47uF_0805_6V3
designator C?  Voltage Rating: 6V3  Capacitance: 47uF  (hidden comment: *)
SAMSUNG ELECTRO-MECHANICS - CL21A476MQCLRNC - CAP, 47UF, 6.3V, MLCC, 0805; Tolerance: 20%; Dielectric: X5R; Supplier 1: Digi-Key; Manufacturer 1: Samsung; Manufacturer Part Number 1: CL21A476MQCLRNC; Stock 1: 94580; Pricing 1: 1=0.56000, 10=0.39100, 50=0.27380, 100=0.23470, 500=0.17602, 1000=0.14865 (USD); RoHS: Yes; Mount: Surface Mount; Case/Package: 0805; Case Code (Metric): 2012; Case Code (Imperial): 0805; Contact Plating: Tin; Min Operating Temperature: -55°C; Max Operating Temperature: 85°C; Packaging: Tape and Reel; Package Quantity: 4000; Termination: Wraparound; Series: CL; Construction: Flat; Length: 2mm; Width: 0.049inch; Thickness: 0.037inch; Depth: 1.25mm; Lead Free: Lead Free; RoHS Compliant: Yes; ComponentLink1URL: https://datasheet.ciiva.com/25723/cl21a476mqclrnc-25723991.pdf?src-supplier=Digi-Key; ComponentLink1Description: https://datasheet.ciiva.com/25723/cl21a476mqclrnc-25723991.pdf?src-supplier=Digi-Key; Supplier Part Number 1: 1276-2420-1-ND
footprint CAPC2012N (Chip Capacitor, Body 2.0x1.3mm, IPC Medium Density)
pins: 1, 2

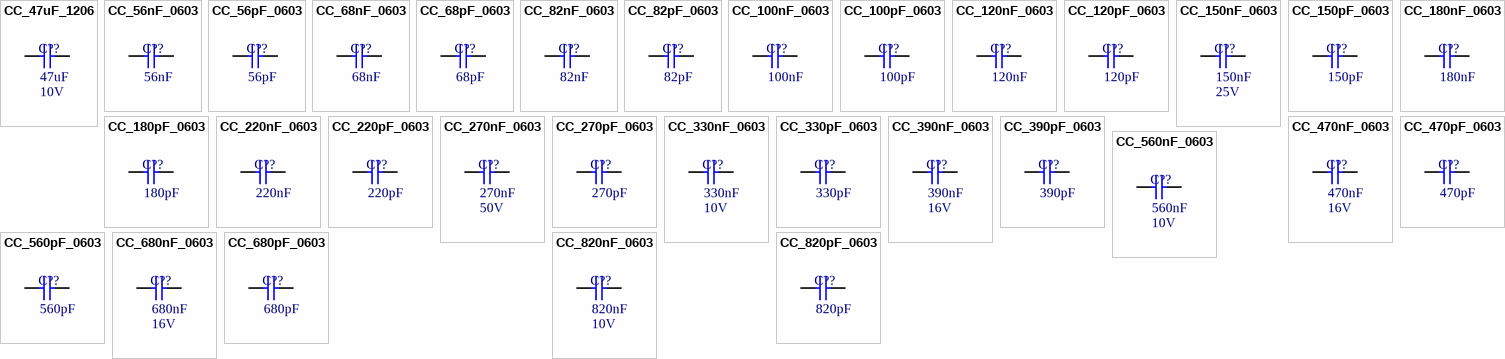
[diagram p3: symbols CC_47uF_1206 to CC_820pF_0603]

## CC_47uF_1206
designator C??, comment Max Voltage: 10V  (hidden comment: 47uF)
CAP CER 47uF X5R -/+20% 10V 1206; Verify: *; Supplier: ECE Dept; Storage Location: PCB Assembly WS; Dielectric: X5R; Footprint: 1210 (3225 metric); MoV: 10V; Value: 47uF
simulation model CAP (Capacitor)
footprint CAPC3216L (Chip Capacitor, Body 3.2x1.6mm, IPC High Density)
footprint CAPC3216M (Chip Capacitor, Body 3.2x1.6mm, IPC Low Density)
footprint CAPC3216N (Chip Capacitor, Body 3.2x1.6mm, IPC Medium Density)
pins: 1, 2

## CC_56nF_0603
designator C??, comment 56nF
CAP CER 56nF X7R +-10% 16V 0603; PackageReference: 0603; Code_IPC: 1608 [0603]; Verify: *; Supplier: ECE Dept; Storage Location: PCB Assembly WS; Value: 56nF
simulation model CAP (Capacitor)
signal-integrity model C0603
footprint CAPC1608L (Chip Capacitor, Body 1.6x0.8mm, IPC High Density)
footprint CAPC1608M (Chip Capacitor, Body 1.6x0.8mm, IPC Low Density)
footprint CAPC1608N (Chip Capacitor, Body 1.6x0.8mm, IPC Medium Density)
pins: 1, 2

## CC_56pF_0603
designator C??, comment 56pF
CAP CER 56pF NPO/COG +-5% 50V 0603; PackageReference: 0603; Code_IPC: 1608 [0603]; Verify: *; Supplier: ECE Dept; Storage Location: PCB Assembly WS; Value: 56pF
simulation model CAP (Capacitor)
signal-integrity model C0603
footprint CAPC1608L (Chip Capacitor, Body 1.6x0.8mm, IPC High Density)
footprint CAPC1608M (Chip Capacitor, Body 1.6x0.8mm, IPC Low Density)
footprint CAPC1608N (Chip Capacitor, Body 1.6x0.8mm, IPC Medium Density)
pins: 1, 2

## CC_68nF_0603
designator C??, comment 68nF
CAP CER 68nF X7R +-10% 25V 0603; PackageReference: 0603; Code_IPC: 1608 [0603]; Verify: *; Supplier: ECE Dept; Storage Location: PCB Assembly WS; Value: 68nF
simulation model CAP (Capacitor)
signal-integrity model C0603
footprint CAPC1608L (Chip Capacitor, Body 1.6x0.8mm, IPC High Density)
footprint CAPC1608M (Chip Capacitor, Body 1.6x0.8mm, IPC Low Density)
footprint CAPC1608N (Chip Capacitor, Body 1.6x0.8mm, IPC Medium Density)
pins: 1, 2

## CC_68pF_0603
designator C??, comment 68pF
CAP CER 68pF NPO/COG +-5% 50V 0603; PackageReference: 0603; Code_IPC: 1608 [0603]; Verify: *; Supplier: ECE Dept; Storage Location: PCB Assembly WS; Value: 68pF
simulation model CAP (Capacitor)
signal-integrity model C0603
footprint CAPC1608L (Chip Capacitor, Body 1.6x0.8mm, IPC High Density)
footprint CAPC1608M (Chip Capacitor, Body 1.6x0.8mm, IPC Low Density)
footprint CAPC1608N (Chip Capacitor, Body 1.6x0.8mm, IPC Medium Density)
pins: 1, 2